# EAGLE library part TLC5916I (library Z80 clock)
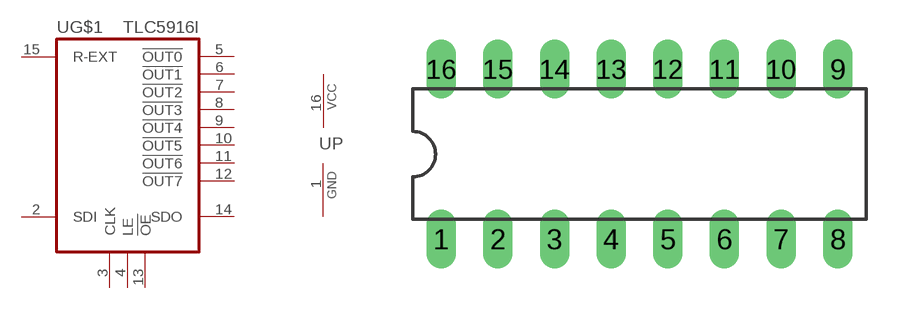
[diagram p4: symbol with the pads of DIL16; footprint DIL16]

Designator prefix U; gates G$1=TLC591X P=PWRN

## TLC5916IN  [DIL16]
1  P:GND  pwr
2  G$1:SDI  in
3  G$1:CLK  in
4  G$1:LE  in
5  G$1:!OUT0!  oc
6  G$1:!OUT1!  oc
7  G$1:!OUT2!  oc
8  G$1:!OUT3!  oc
9  G$1:!OUT4!  oc
10  G$1:!OUT5!  oc
11  G$1:!OUT6!  oc
12  G$1:!OUT7!  oc
13  G$1:!OE!  in
14  G$1:SDO  out
15  G$1:R-EXT  in
16  P:VCC  pwr

## Footprint DIL16 (pad centres in mm)
Dual In Line Package
drill 0.813 long: 1 -8.89,-3.81; 2 -6.35,-3.81; 3 -3.81,-3.81; 4 -1.27,-3.81; 5 1.27,-3.81; 6 3.81,-3.81; 7 6.35,-3.81; 8 8.89,-3.81; 9 8.89,3.81; 10 6.35,3.81; 11 3.81,3.81; 12 1.27,3.81; 13 -1.27,3.81; 14 -3.81,3.81; 15 -6.35,3.81; 16 -8.89,3.81